# EAGLE library part XC9572XL-10TQG100C (library altera_SGQ)
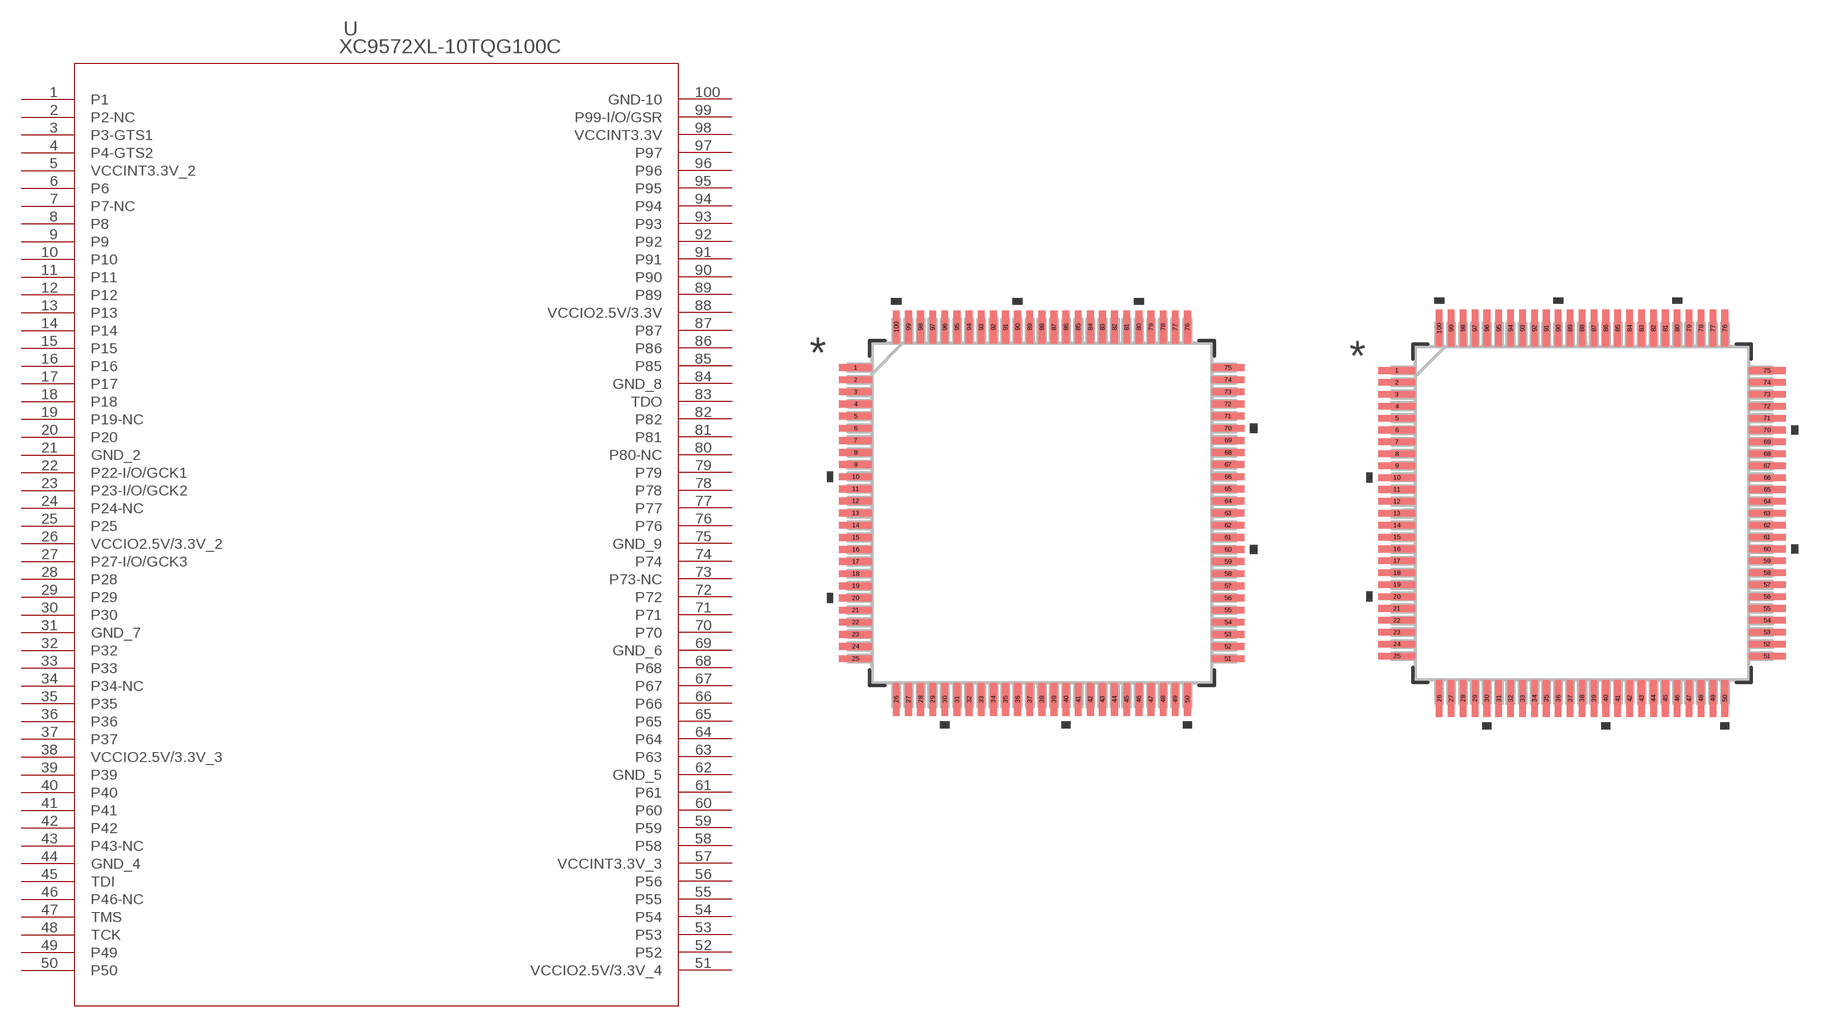
[diagram p62: symbol with the pads of 100-TQFP_XIL; footprints 100-TQFP_XIL, 100-TQFP_XIL-M]

Designator prefix U

## XC9572XL-10TQG100C (COPYRIGHT: Copyright (C) 2024 Ultra Librarian. All rights reserved.; MANUFACTURER_PART_NUMBER: XC9572XL-10TQG100C; MFR_NAME: Xilinx Inc)  [100-TQFP_XIL]
1  P1
2  P2-NC  nc
3  P3-GTS1
4  P4-GTS2
5  VCCINT3.3V_2  pwr
6  P6
7  P7-NC  nc
8  P8
9  P9
10  P10
11  P11
12  P12
13  P13
14  P14
15  P15
16  P16
17  P17
18  P18
19  P19-NC  nc
20  P20
21  GND_2  pwr
22  P22-I/O/GCK1
23  P23-I/O/GCK2
24  P24-NC  nc
25  P25
26  VCCIO2.5V/3.3V_2  pwr
27  P27-I/O/GCK3
28  P28
29  P29
30  P30
31  GND_7  pwr
32  P32
33  P33
34  P34-NC  nc
35  P35
36  P36
37  P37
38  VCCIO2.5V/3.3V_3  pwr
39  P39
40  P40
41  P41
42  P42
43  P43-NC  nc
44  GND_4  pwr
45  TDI  pas
46  P46-NC  nc
47  TMS  pas
48  TCK  pas
49  P49
50  P50
51  VCCIO2.5V/3.3V_4  pwr
52  P52
53  P53
54  P54
55  P55
56  P56
57  VCCINT3.3V_3  pwr
58  P58
59  P59
60  P60
61  P61
62  GND_5  pwr
63  P63
64  P64
65  P65
66  P66
67  P67
68  P68
69  GND_6  pwr
70  P70
71  P71
72  P72
73  P73-NC  nc
74  P74
75  GND_9  pwr
76  P76
77  P77
78  P78
79  P79
80  P80-NC  nc
81  P81
82  P82
83  TDO  pas
84  GND_8  pwr
85  P85
86  P86
87  P87
88  VCCIO2.5V/3.3V  pwr
89  P89
90  P90
91  P91
92  P92
93  P93
94  P94
95  P95
96  P96
97  P97
98  VCCINT3.3V  pwr
99  P99-I/O/GSR
100  GND-10  pwr

## XC9572XL-10TQG100C100-TQFP_XIL-M (COPYRIGHT: Copyright (C) 2024 Ultra Librarian. All rights reserved.; MANUFACTURER_PART_NUMBER: XC9572XL-10TQG100C; MFR_NAME: Xilinx Inc)  [100-TQFP_XIL-M]
Pads as for 100-TQFP_XIL

## XC9572XL-10TQG100C100-TQFP_XIL-L (COPYRIGHT: Copyright (C) 2024 Ultra Librarian. All rights reserved.; MANUFACTURER_PART_NUMBER: XC9572XL-10TQG100C; MFR_NAME: Xilinx Inc)  [100-TQFP_XIL-L]
Pads as for 100-TQFP_XIL

## Footprint 100-TQFP_XIL (pad centres in mm)
smd 1.359 x 0.279: 1 -7.677,6; 2 -7.677,5.5; 3 -7.677,5; 4 -7.677,4.5; 5 -7.677,4; 6 -7.677,3.5; 7 -7.677,3; 8 -7.677,2.5; 9 -7.677,2; 10 -7.677,1.5; 11 -7.677,1; 12 -7.677,0.5; 13 -7.677,0; 14 -7.677,-0.5; 15 -7.677,-1; 16 -7.677,-1.5; 17 -7.677,-2; 18 -7.677,-2.5; 19 -7.677,-3; 20 -7.677,-3.5; 21 -7.677,-4; 22 -7.677,-4.5; 23 -7.677,-5; 24 -7.677,-5.5; 25 -7.677,-6; 51 7.677,-6; 52 7.677,-5.5; 53 7.677,-5; 54 7.677,-4.5; 55 7.677,-4; 56 7.677,-3.5; 57 7.677,-3; 58 7.677,-2.5; 59 7.677,-2; 60 7.677,-1.5; 61 7.677,-1; 62 7.677,-0.5; 63 7.677,0; 64 7.677,0.5; 65 7.677,1; 66 7.677,1.5; 67 7.677,2; 68 7.677,2.5; 69 7.677,3; 70 7.677,3.5; 71 7.677,4; 72 7.677,4.5; 73 7.677,5; 74 7.677,5.5; 75 7.677,6
smd 0.279 x 1.359: 26 -6,-7.677; 27 -5.5,-7.677; 28 -5,-7.677; 29 -4.5,-7.677; 30 -4,-7.677; 31 -3.5,-7.677; 32 -3,-7.677; 33 -2.5,-7.677; 34 -2,-7.677; 35 -1.5,-7.677; 36 -1,-7.677; 37 -0.5,-7.677; 38 0,-7.677; 39 0.5,-7.677; 40 1,-7.677; 41 1.5,-7.677; 42 2,-7.677; 43 2.5,-7.677; 44 3,-7.677; 45 3.5,-7.677; 46 4,-7.677; 47 4.5,-7.677; 48 5,-7.677; 49 5.5,-7.677; 50 6,-7.677; 76 6,7.677; 77 5.5,7.677; 78 5,7.677; 79 4.5,7.677; 80 4,7.677; 81 3.5,7.677; 82 3,7.677; 83 2.5,7.677; 84 2,7.677; 85 1.5,7.677; 86 1,7.677; 87 0.5,7.677; 88 0,7.677; 89 -0.5,7.677; 90 -1,7.677; 91 -1.5,7.677; 92 -2,7.677; 93 -2.5,7.677; 94 -3,7.677; 95 -3.5,7.677; 96 -4,7.677; 97 -4.5,7.677; 98 -5,7.677; 99 -5.5,7.677; 100 -6,7.677

## Footprint 100-TQFP_XIL-M (pad centres in mm)
smd 1.562 x 0.279: 1 -7.779,6; 2 -7.779,5.5; 3 -7.779,5; 4 -7.779,4.5; 5 -7.779,4; 6 -7.779,3.5; 7 -7.779,3; 8 -7.779,2.5; 9 -7.779,2; 10 -7.779,1.5; 11 -7.779,1; 12 -7.779,0.5; 13 -7.779,0; 14 -7.779,-0.5; 15 -7.779,-1; 16 -7.779,-1.5; 17 -7.779,-2; 18 -7.779,-2.5; 19 -7.779,-3; 20 -7.779,-3.5; 21 -7.779,-4; 22 -7.779,-4.5; 23 -7.779,-5; 24 -7.779,-5.5; 25 -7.779,-6; 51 7.779,-6; 52 7.779,-5.5; 53 7.779,-5; 54 7.779,-4.5; 55 7.779,-4; 56 7.779,-3.5; 57 7.779,-3; 58 7.779,-2.5; 59 7.779,-2; 60 7.779,-1.5; 61 7.779,-1; 62 7.779,-0.5; 63 7.779,0; 64 7.779,0.5; 65 7.779,1; 66 7.779,1.5; 67 7.779,2; 68 7.779,2.5; 69 7.779,3; 70 7.779,3.5; 71 7.779,4; 72 7.779,4.5; 73 7.779,5; 74 7.779,5.5; 75 7.779,6
smd 0.279 x 1.562: 26 -6,-7.779; 27 -5.5,-7.779; 28 -5,-7.779; 29 -4.5,-7.779; 30 -4,-7.779; 31 -3.5,-7.779; 32 -3,-7.779; 33 -2.5,-7.779; 34 -2,-7.779; 35 -1.5,-7.779; 36 -1,-7.779; 37 -0.5,-7.779; 38 0,-7.779; 39 0.5,-7.779; 40 1,-7.779; 41 1.5,-7.779; 42 2,-7.779; 43 2.5,-7.779; 44 3,-7.779; 45 3.5,-7.779; 46 4,-7.779; 47 4.5,-7.779; 48 5,-7.779; 49 5.5,-7.779; 50 6,-7.779; 76 6,7.779; 77 5.5,7.779; 78 5,7.779; 79 4.5,7.779; 80 4,7.779; 81 3.5,7.779; 82 3,7.779; 83 2.5,7.779; 84 2,7.779; 85 1.5,7.779; 86 1,7.779; 87 0.5,7.779; 88 0,7.779; 89 -0.5,7.779; 90 -1,7.779; 91 -1.5,7.779; 92 -2,7.779; 93 -2.5,7.779; 94 -3,7.779; 95 -3.5,7.779; 96 -4,7.779; 97 -4.5,7.779; 98 -5,7.779; 99 -5.5,7.779; 100 -6,7.779

## Footprint 100-TQFP_XIL-L (pad centres in mm)
smd 1.156 x 0.229: 1 -7.576,6; 2 -7.576,5.5; 3 -7.576,5; 4 -7.576,4.5; 5 -7.576,4; 6 -7.576,3.5; 7 -7.576,3; 8 -7.576,2.5; 9 -7.576,2; 10 -7.576,1.5; 11 -7.576,1; 12 -7.576,0.5; 13 -7.576,0; 14 -7.576,-0.5; 15 -7.576,-1; 16 -7.576,-1.5; 17 -7.576,-2; 18 -7.576,-2.5; 19 -7.576,-3; 20 -7.576,-3.5; 21 -7.576,-4; 22 -7.576,-4.5; 23 -7.576,-5; 24 -7.576,-5.5; 25 -7.576,-6; 51 7.576,-6; 52 7.576,-5.5; 53 7.576,-5; 54 7.576,-4.5; 55 7.576,-4; 56 7.576,-3.5; 57 7.576,-3; 58 7.576,-2.5; 59 7.576,-2; 60 7.576,-1.5; 61 7.576,-1; 62 7.576,-0.5; 63 7.576,0; 64 7.576,0.5; 65 7.576,1; 66 7.576,1.5; 67 7.576,2; 68 7.576,2.5; 69 7.576,3; 70 7.576,3.5; 71 7.576,4; 72 7.576,4.5; 73 7.576,5; 74 7.576,5.5; 75 7.576,6
smd 0.229 x 1.156: 26 -6,-7.576; 27 -5.5,-7.576; 28 -5,-7.576; 29 -4.5,-7.576; 30 -4,-7.576; 31 -3.5,-7.576; 32 -3,-7.576; 33 -2.5,-7.576; 34 -2,-7.576; 35 -1.5,-7.576; 36 -1,-7.576; 37 -0.5,-7.576; 38 0,-7.576; 39 0.5,-7.576; 40 1,-7.576; 41 1.5,-7.576; 42 2,-7.576; 43 2.5,-7.576; 44 3,-7.576; 45 3.5,-7.576; 46 4,-7.576; 47 4.5,-7.576; 48 5,-7.576; 49 5.5,-7.576; 50 6,-7.576; 76 6,7.576; 77 5.5,7.576; 78 5,7.576; 79 4.5,7.576; 80 4,7.576; 81 3.5,7.576; 82 3,7.576; 83 2.5,7.576; 84 2,7.576; 85 1.5,7.576; 86 1,7.576; 87 0.5,7.576; 88 0,7.576; 89 -0.5,7.576; 90 -1,7.576; 91 -1.5,7.576; 92 -2,7.576; 93 -2.5,7.576; 94 -3,7.576; 95 -3.5,7.576; 96 -4,7.576; 97 -4.5,7.576; 98 -5,7.576; 99 -5.5,7.576; 100 -6,7.576